# EAGLE library part PMEG2005AEV (library caffeine)
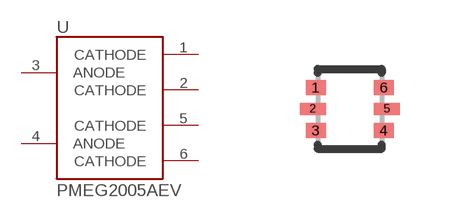
[diagram p0: symbol with the pads of SOT666; footprint SOT666]

Designator prefix -

## PMEG2005AEV  [SOT666]
1  CATHODE  pas
2  CATHODE  pas
3  ANODE  pas
4  ANODE  pas
5  CATHODE  pas
6  CATHODE  pas

## Footprint SOT666 (pad centres in mm)
smd 0.5 x 0.375: 1 -0.85,0.537; 3 -0.85,-0.537; 4 0.85,-0.537; 6 0.85,0.537
smd 0.65 x 0.3: 2 -0.925,0; 5 0.925,0